# Altium integrated library NSC MiscPower.IntLib: 1417 symbols (part 7 of 39)
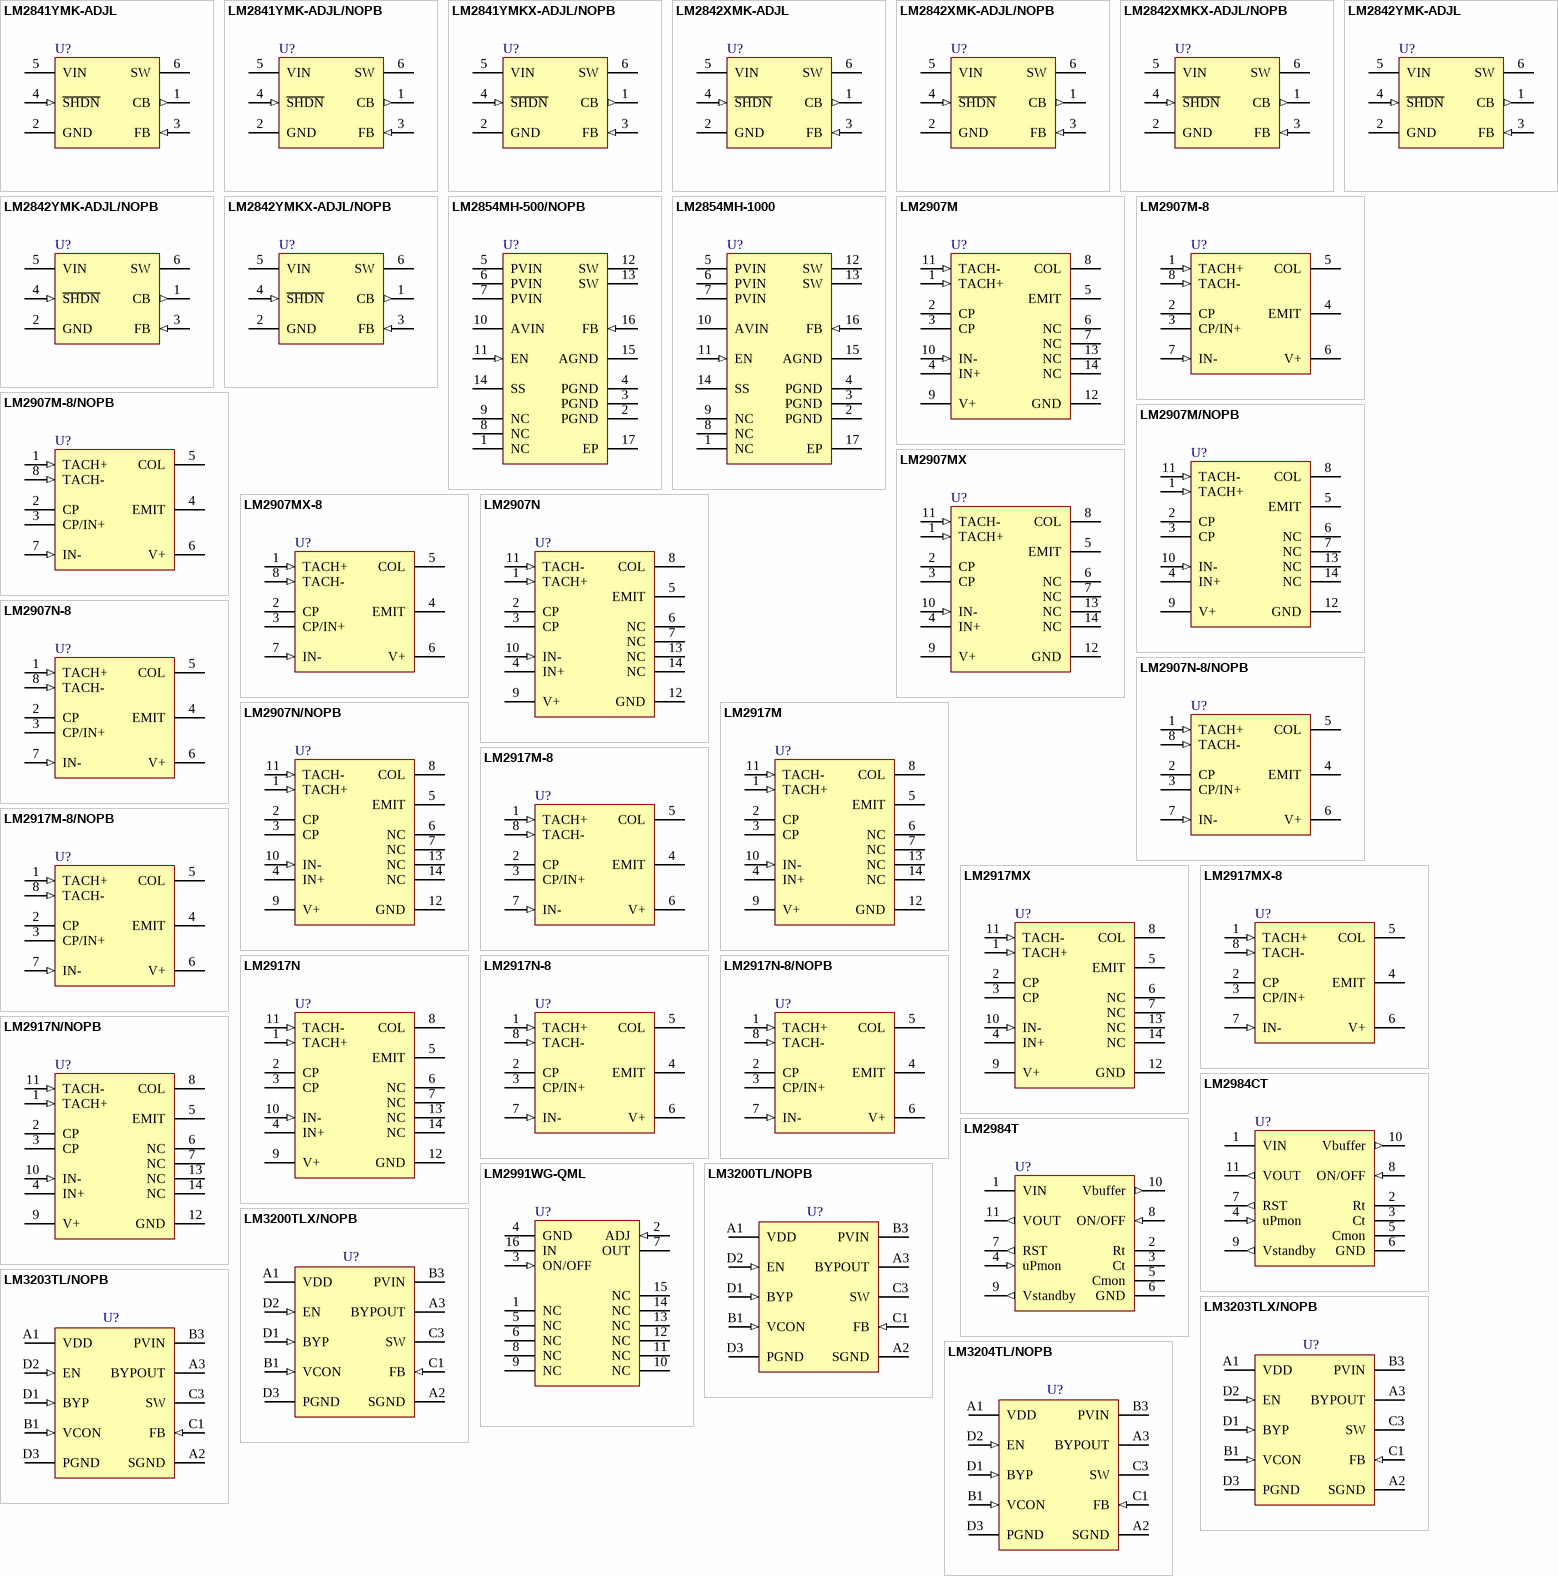
[diagram p57: symbols LM2841YMK-ADJL to LM3204TL/NOPB]

## LM2907N-8/NOPB
designator U?
Frequency to Voltage Converter, 8-pin MDIP, Pb-Free; PartNumber: LM2907N-8/NOPB; Manufacturer: National Semiconductor; PackageTopMarking: NSUZXYTTE#*LM*2907N-8; PowerWise: N; CompType: MiscPower; Published: 1-Mar-2010; DatasheetVersion: Dec-2008; PackageVersion: revG, May-2006; PackageReference: N08E; Publisher: Altium Limited; PackageDescription: MDIP, .365 x .250 x .130in, 8 Lead, .100in Pitch; Supplier 1: Digi-Key; Supplier Part Number 1: LM2907N-8-ND; Supplier 2: Farnell; Supplier Part Number 2: 1468987; RoHS: Y; PinCount: 8; Code_JEDEC: MS-001-BA; ComponentLink1Description: LM2907 Datasheet; ComponentLink1URL: http://www.national.com/ds/LM/LM2907.pdf; ComponentLink2Description: LM2907 Web Page; ComponentLink2URL: http://www.national.com/pf/LM/LM2907.html; ComponentLink3Description: N08E Package Page; ComponentLink3URL: http://www.national.com/packaging/folders/n08e.html
footprint N08E (DIP, 8-Leads, Row Spacing 7.62mm, Pitch 2.54mm, Body 9.91x6.35mm)
pins: 1 TACH+ (in), 2 CP, 3 CP/IN+, 4 EMIT, 5 COL, 6 V+ (power), 7 IN- (in), 8 TACH- (in)

## LM2907N/NOPB
designator U?
Frequency to Voltage Converter, 14-pin MDIP, Pb-Free; PartNumber: LM2907N/NOPB; Manufacturer: National Semiconductor; PackageTopMarking: NSUZXYYTTE#*LM2907N; PowerWise: N; CompType: MiscPower; Published: 1-Mar-2010; DatasheetVersion: Dec-2008; PackageVersion: revG, May-2006; PackageReference: N14A; Publisher: Altium Limited; PackageDescription: MDIP, .750 x .250 x.130in, 14 Lead, .100in Pitch; Supplier 1: Digi-Key; Supplier Part Number 1: LM2907N-ND; Supplier 2: Farnell; Supplier Part Number 2: 1564686; RoHS: Y; PinCount: 14; Code_JEDEC: MS-001-AA; ComponentLink1Description: LM2907 Datasheet; ComponentLink1URL: http://www.national.com/ds/LM/LM2907.pdf; ComponentLink2Description: LM2907 Web Page; ComponentLink2URL: http://www.national.com/pf/LM/LM2907.html; ComponentLink3Description: N14A Package Page; ComponentLink3URL: http://www.national.com/packaging/folders/n14a.html
footprint N14A (DIP, 14-Leads, Row Spacing 7.62mm, Pitch 2.54mm, Body 19.56x6.35mm)
pins: 1 TACH+ (in), 2 CP, 3 CP, 4 IN+, 5 EMIT, 6 NC, 7 NC, 8 COL, 9 V+ (power), 10 IN- (in), 11 TACH- (in), 12 GND (power), 13 NC, 14 NC

## LM2917M
designator U?
Frequency to Voltage Converter, 14-pin Narrow SOIC; PartNumber: LM2917M; Manufacturer: National Semiconductor; PackageTopMarking: NSUZXYTTE#*LM2917M; PowerWise: N; CompType: MiscPower; Published: 4-Dec-2008; DatasheetVersion: Dec-2008; PackageVersion: revJ, Jan-1996; PackageReference: M14A; Publisher: Altium Limited; PackageDescription: Molded Package S.O., .150in Wide, 14 Lead; Supplier 1: Farnell; Supplier Part Number 1: 4466690; RoHS: N; PinCount: 14; Code_JEDEC: MS-012AB; Code_IPC: SOIC127P600-14; ComponentLink1Description: LM2917 Datasheet; ComponentLink1URL: http://www.national.com/ds/LM/LM2917.pdf; ComponentLink2Description: LM2917 Web Page; ComponentLink2URL: http://www.national.com/pf/LM/LM2917.html; ComponentLink3Description: M14A Package Page; ComponentLink3URL: http://www.national.com/packaging/folders/m14a.html
footprint M14A_N (SOIC, 14-Leads, Body 8.6x3.9mm, Pitch 1.27mm, IPC Medium Density)
footprint M14A_L (SOIC, 14-Leads, Body 8.6x3.9mm, Pitch 1.27mm, IPC High Density)
footprint M14A_M (SOIC, 14-Leads, Body 8.6x3.9mm, Pitch 1.27mm, IPC Low Density)
pins: 1 TACH+ (in), 2 CP, 3 CP, 4 IN+, 5 EMIT, 6 NC, 7 NC, 8 COL, 9 V+ (power), 10 IN- (in), 11 TACH- (in), 12 GND (power), 13 NC, 14 NC

## LM2917M-8
designator U?
Frequency to Voltage Converter, 8-pin Narrow SOIC; PartNumber: LM2917M-8; Manufacturer: National Semiconductor; PackageTopMarking: NSZXTT*LM29*17M-8; PowerWise: N; CompType: MiscPower; Published: 4-Dec-2008; DatasheetVersion: Dec-2008; PackageVersion: revM, May-2009; PackageReference: M08A; Publisher: Altium Limited; PackageDescription: SOIC Narrow, 4.9 x 3.9 x 1.45mm, 8 Lead, 1.27mm Pitch; Supplier 1: Digi-Key; Supplier Part Number 1: LM2917M-8-ND; Supplier 2: Farnell; Supplier Part Number 2: 7592530; RoHS: N; PinCount: 8; Code_JEDEC: MS-012-AA; Code_IPC: SOIC127P600-8; ComponentLink1Description: LM2917 Datasheet; ComponentLink1URL: http://www.national.com/ds/LM/LM2917.pdf; ComponentLink2Description: LM2917 Web Page; ComponentLink2URL: http://www.national.com/pf/LM/LM2917.html; ComponentLink3Description: M08A Package Page; ComponentLink3URL: http://www.national.com/packaging/folders/m08a.html
footprint M08A_N (SOIC, 8-Leads, Body 4.9x3.9mm, Pitch 1.27mm, IPC Medium Density)
footprint M08A_L (SOIC, 8-Leads, Body 4.9x3.9mm, Pitch 1.27mm, IPC High Density)
footprint M08A_M (SOIC, 8-Leads, Body 4.9x3.9mm, Pitch 1.27mm, IPC Low Density)
pins: 1 TACH+ (in), 2 CP, 3 CP/IN+, 4 EMIT, 5 COL, 6 V+ (power), 7 IN- (in), 8 TACH- (in)

## LM2917M-8/NOPB
designator U?
Frequency to Voltage Converter, 8-pin Narrow SOIC, Pb-Free; PartNumber: LM2917M-8/NOPB; Manufacturer: National Semiconductor; PackageTopMarking: NSZXTT*LM29*17M-8; PowerWise: N; CompType: MiscPower; Published: 1-Mar-2010; DatasheetVersion: Dec-2008; PackageVersion: revM, May-2009; PackageReference: M08A; Publisher: Altium Limited; PackageDescription: SOIC Narrow, 4.9 x 3.9 x 1.45mm, 8 Lead, 1.27mm Pitch; Supplier 1: Digi-Key; Supplier Part Number 1: LM2917M-8/NOPB-ND; Supplier 2: Farnell; Supplier Part Number 2: 1468988; RoHS: Y; PinCount: 8; Code_JEDEC: MS-012-AA; Code_IPC: SOIC127P600-8; ComponentLink1Description: LM2917 Datasheet; ComponentLink1URL: http://www.national.com/ds/LM/LM2917.pdf; ComponentLink2Description: LM2917 Web Page; ComponentLink2URL: http://www.national.com/pf/LM/LM2917.html; ComponentLink3Description: M08A Package Page; ComponentLink3URL: http://www.national.com/packaging/folders/m08a.html
footprint M08A_N (SOIC, 8-Leads, Body 4.9x3.9mm, Pitch 1.27mm, IPC Medium Density)
footprint M08A_L (SOIC, 8-Leads, Body 4.9x3.9mm, Pitch 1.27mm, IPC High Density)
footprint M08A_M (SOIC, 8-Leads, Body 4.9x3.9mm, Pitch 1.27mm, IPC Low Density)
pins: 1 TACH+ (in), 2 CP, 3 CP/IN+, 4 EMIT, 5 COL, 6 V+ (power), 7 IN- (in), 8 TACH- (in)

## LM2917MX
designator U?
Frequency to Voltage Converter, 14-pin Narrow SOIC; PartNumber: LM2917MX; Manufacturer: National Semiconductor; PackageTopMarking: NSUZXYTTE#*LM2917M; PowerWise: N; CompType: MiscPower; Published: 1-Mar-2010; DatasheetVersion: Dec-2008; PackageVersion: revJ, Jan-1996; PackageReference: M14A; Publisher: Altium Limited; PackageDescription: Molded Package S.O., .150in Wide, 14 Lead; RoHS: N; PinCount: 14; Code_JEDEC: MS-012AB; Code_IPC: SOIC127P600-14; ComponentLink1Description: LM2917 Datasheet; ComponentLink1URL: http://www.national.com/ds/LM/LM2917.pdf; ComponentLink2Description: LM2917 Web Page; ComponentLink2URL: http://www.national.com/pf/LM/LM2917.html; ComponentLink3Description: M14A Package Page; ComponentLink3URL: http://www.national.com/packaging/folders/m14a.html
footprint M14A_N (SOIC, 14-Leads, Body 8.6x3.9mm, Pitch 1.27mm, IPC Medium Density)
footprint M14A_L (SOIC, 14-Leads, Body 8.6x3.9mm, Pitch 1.27mm, IPC High Density)
footprint M14A_M (SOIC, 14-Leads, Body 8.6x3.9mm, Pitch 1.27mm, IPC Low Density)
pins: 1 TACH+ (in), 2 CP, 3 CP, 4 IN+, 5 EMIT, 6 NC, 7 NC, 8 COL, 9 V+ (power), 10 IN- (in), 11 TACH- (in), 12 GND (power), 13 NC, 14 NC

## LM2917MX-8
designator U?
Frequency to Voltage Converter, 8-pin Narrow SOIC; PartNumber: LM2917MX-8; Manufacturer: National Semiconductor; PackageTopMarking: NSZXTT*LM29*17M-8; PowerWise: N; CompType: MiscPower; Published: 1-Mar-2010; DatasheetVersion: Dec-2008; PackageVersion: revM, May-2009; PackageReference: M08A; Publisher: Altium Limited; PackageDescription: SOIC Narrow, 4.9 x 3.9 x 1.45mm, 8 Lead, 1.27mm Pitch; Supplier 1: Digi-Key; Supplier Part Number 1: LM2917MX-8TR-ND; Supplier 2: Digi-Key; Supplier Part Number 2: LM2917MX-8CT-ND; Supplier 3: Digi-Key; Supplier Part Number 3: LM2917MX-8DKR-ND; RoHS: N; PinCount: 8; Code_JEDEC: MS-012-AA; Code_IPC: SOIC127P600-8; ComponentLink1Description: LM2917 Datasheet; ComponentLink1URL: http://www.national.com/ds/LM/LM2917.pdf; ComponentLink2Description: LM2917 Web Page; ComponentLink2URL: http://www.national.com/pf/LM/LM2917.html; ComponentLink3Description: M08A Package Page; ComponentLink3URL: http://www.national.com/packaging/folders/m08a.html
footprint M08A_N (SOIC, 8-Leads, Body 4.9x3.9mm, Pitch 1.27mm, IPC Medium Density)
footprint M08A_L (SOIC, 8-Leads, Body 4.9x3.9mm, Pitch 1.27mm, IPC High Density)
footprint M08A_M (SOIC, 8-Leads, Body 4.9x3.9mm, Pitch 1.27mm, IPC Low Density)
pins: 1 TACH+ (in), 2 CP, 3 CP/IN+, 4 EMIT, 5 COL, 6 V+ (power), 7 IN- (in), 8 TACH- (in)

## LM2917N
designator U?
Frequency to Voltage Converter, 14-pin MDIP; PartNumber: LM2917N; Manufacturer: National Semiconductor; PackageTopMarking: NSUZXYYTTE#*LM2917N; PowerWise: N; CompType: MiscPower; Published: 4-Dec-2008; DatasheetVersion: Dec-2008; PackageVersion: revG, May-2006; PackageReference: N14A; Publisher: Altium Limited; PackageDescription: MDIP, .750 x .250 x.130in, 14 Lead, .100in Pitch; Supplier 1: Farnell; Supplier Part Number 1: 9487786; RoHS: N; PinCount: 14; Code_JEDEC: MS-001-AA; ComponentLink1Description: LM2917 Datasheet; ComponentLink1URL: http://www.national.com/ds/LM/LM2917.pdf; ComponentLink2Description: LM2917 Web Page; ComponentLink2URL: http://www.national.com/pf/LM/LM2917.html; ComponentLink3Description: N14A Package Page; ComponentLink3URL: http://www.national.com/packaging/folders/n14a.html
footprint N14A (DIP, 14-Leads, Row Spacing 7.62mm, Pitch 2.54mm, Body 19.56x6.35mm)
pins: 1 TACH+ (in), 2 CP, 3 CP, 4 IN+, 5 EMIT, 6 NC, 7 NC, 8 COL, 9 V+ (power), 10 IN- (in), 11 TACH- (in), 12 GND (power), 13 NC, 14 NC

## LM2917N-8
designator U?
Frequency to Voltage Converter, 8-pin MDIP; PartNumber: LM2917N-8; Manufacturer: National Semiconductor; PackageTopMarking: NSUZXYTTE#*LM*2917N-8; PowerWise: N; CompType: MiscPower; Published: 4-Dec-2008; DatasheetVersion: Dec-2008; PackageVersion: revG, May-2006; PackageReference: N08E; Publisher: Altium Limited; PackageDescription: MDIP, .365 x .250 x .130in, 8 Lead, .100in Pitch; Supplier 1: Farnell; Supplier Part Number 1: 9487794; RoHS: N; PinCount: 8; Code_JEDEC: MS-001-BA; ComponentLink1Description: LM2917 Datasheet; ComponentLink1URL: http://www.national.com/ds/LM/LM2917.pdf; ComponentLink2Description: LM2917 Web Page; ComponentLink2URL: http://www.national.com/pf/LM/LM2917.html; ComponentLink3Description: N08E Package Page; ComponentLink3URL: http://www.national.com/packaging/folders/n08e.html
footprint N08E (DIP, 8-Leads, Row Spacing 7.62mm, Pitch 2.54mm, Body 9.91x6.35mm)
pins: 1 TACH+ (in), 2 CP, 3 CP/IN+, 4 EMIT, 5 COL, 6 V+ (power), 7 IN- (in), 8 TACH- (in)

## LM2917N-8/NOPB
designator U?
Frequency to Voltage Converter, 8-pin MDIP, Pb-Free; PartNumber: LM2917N-8/NOPB; Manufacturer: National Semiconductor; PackageTopMarking: NSUZXYTTE#*LM*2917N-8; PowerWise: N; CompType: MiscPower; Published: 1-Mar-2010; DatasheetVersion: Dec-2008; PackageVersion: revG, May-2006; PackageReference: N08E; Publisher: Altium Limited; PackageDescription: MDIP, .365 x .250 x .130in, 8 Lead, .100in Pitch; Supplier 1: Digi-Key; Supplier Part Number 1: LM2917N-8-ND; Supplier 2: Farnell; Supplier Part Number 2: 1468989; RoHS: Y; PinCount: 8; Code_JEDEC: MS-001-BA; ComponentLink1Description: LM2917 Datasheet; ComponentLink1URL: http://www.national.com/ds/LM/LM2917.pdf; ComponentLink2Description: LM2917 Web Page; ComponentLink2URL: http://www.national.com/pf/LM/LM2917.html; ComponentLink3Description: N08E Package Page; ComponentLink3URL: http://www.national.com/packaging/folders/n08e.html
footprint N08E (DIP, 8-Leads, Row Spacing 7.62mm, Pitch 2.54mm, Body 9.91x6.35mm)
pins: 1 TACH+ (in), 2 CP, 3 CP/IN+, 4 EMIT, 5 COL, 6 V+ (power), 7 IN- (in), 8 TACH- (in)

## LM2917N/NOPB
designator U?
Frequency to Voltage Converter, 14-pin MDIP, Pb-Free; PartNumber: LM2917N/NOPB; Manufacturer: National Semiconductor; PackageTopMarking: NSUZXYYTTE#*LM2917N; PowerWise: N; CompType: MiscPower; Published: 1-Mar-2010; DatasheetVersion: Dec-2008; PackageVersion: revG, May-2006; PackageReference: N14A; Publisher: Altium Limited; PackageDescription: MDIP, .750 x .250 x.130in, 14 Lead, .100in Pitch; Supplier 1: Digi-Key; Supplier Part Number 1: LM2917N-ND; Supplier 2: Farnell; Supplier Part Number 2: 1184975; RoHS: Y; PinCount: 14; Code_JEDEC: MS-001-AA; ComponentLink1Description: LM2917 Datasheet; ComponentLink1URL: http://www.national.com/ds/LM/LM2917.pdf; ComponentLink2Description: LM2917 Web Page; ComponentLink2URL: http://www.national.com/pf/LM/LM2917.html; ComponentLink3Description: N14A Package Page; ComponentLink3URL: http://www.national.com/packaging/folders/n14a.html
footprint N14A (DIP, 14-Leads, Row Spacing 7.62mm, Pitch 2.54mm, Body 19.56x6.35mm)
pins: 1 TACH+ (in), 2 CP, 3 CP, 4 IN+, 5 EMIT, 6 NC, 7 NC, 8 COL, 9 V+ (power), 10 IN- (in), 11 TACH- (in), 12 GND (power), 13 NC, 14 NC

## LM2984CT
designator U?
Microprocessor Power Supply System, 11-pin TO-220; PartNumber: LM2984CT; Manufacturer: National Semiconductor; PackageTopMarking: NSUZXYTTE#*LM2984CT*P+; PowerWise: N; CompType: MiscPower; Published: 4-Dec-2008; DatasheetVersion: May-1989; PackageVersion: revA, Mar-1987; PackageReference: TA11B; Publisher: Altium Limited; PackageDescription: TO-220, Molded, .788 x .421in Body, 11 Lead, .067in Pitch; RoHS: N; PinCount: 11; ComponentLink1Description: LM2984C Datasheet; ComponentLink1URL: http://www.national.com/ds/LM/LM2984C.pdf; ComponentLink2Description: LM2984C Web Page; ComponentLink2URL: http://www.national.com/pf/LM/LM2984C.html; ComponentLink3Description: TA11B Package Page; ComponentLink3URL: http://www.national.com/packaging/folders/ta11b.html
footprint TA11B (TO, Thru-Hole, Vertical, Heatsink Mounted; 11 Bent Staggered Leads; Body 20x10.7x4.5mm, Pitch 1.7 mm)
pins: 1 VIN (power), 2 Rt, 3 Ct, 4 uPmon (in), 5 Cmon, 6 GND (power), 7 RST (out), 8 ON/OFF (in), 9 Vstandby (out), 10 Vbuffer (out), 11 VOUT (out)

## LM2984T
designator U?
Microprocessor Power Supply System, 11-pin TO-220; PartNumber: LM2984T; Manufacturer: National Semiconductor; PackageTopMarking: NSUZXYTTE#*LM2984T; PowerWise: N; CompType: MiscPower; Published: 4-Dec-2008; DatasheetVersion: Dec-2008; PackageVersion: revA, Mar-1987; PackageReference: TA11B; Publisher: Altium Limited; PackageDescription: TO-220, Molded, .788 x .421in Body, 11 Lead, .067in Pitch; RoHS: N; PinCount: 11; ComponentLink1Description: LM2984 Datasheet; ComponentLink1URL: http://www.national.com/ds/LM/LM2984.pdf; ComponentLink2Description: LM2984 Web Page; ComponentLink2URL: http://www.national.com/pf/LM/LM2984.html; ComponentLink3Description: TA11B Package Page; ComponentLink3URL: http://www.national.com/packaging/folders/ta11b.html
footprint TA11B (TO, Thru-Hole, Vertical, Heatsink Mounted; 11 Bent Staggered Leads; Body 20x10.7x4.5mm, Pitch 1.7 mm)
pins: 1 VIN (power), 2 Rt, 3 Ct, 4 uPmon (in), 5 Cmon, 6 GND (power), 7 RST (out), 8 ON/OFF (in), 9 Vstandby (out), 10 Vbuffer (out), 11 VOUT (out)

## LM2991WG-QML
designator U?
Negative Low Dropout Adjustable Regulator, 16-pin CerPACK; PartNumber: LM2991WG-QML; Manufacturer: National Semiconductor; PackageTopMarking: NSZSSXXYYA*LM2991WG-*QML Q 5962-*9650501QXA; PowerWise: N; CompType: MiscPower; High-Reliability: Y; Published: 4-Dec-2008; DatasheetVersion: Sep-2000; PackageVersion: revE, Jul-2007; PackageReference: WG16A; Publisher: Altium Limited; PackageDescription: Cerpack, .390 x .250 x .070in, 16 Lead, .050in Pitch, Gull Wing; RoHS: N; PinCount: 16; ComponentLink1Description: LM2991 Datasheet; ComponentLink1URL: http://www.national.com/ds/LM/LM2991QML.pdf; ComponentLink2Description: LM2991 Web Page; ComponentLink2URL: http://www.national.com/pf/LM/LM2991.html; ComponentLink3Description: WG16A Package Page; ComponentLink3URL: http://www.national.com/packaging/folders/wg16a.html
footprint WG16A_N (CERPACK, 16-Leads, Body 9.9x6.5mm, Pitch 1.27mm, IPC Medium Density)
footprint WG16A_L (CERPACK, 16-Leads, Body 9.9x6.5mm, Pitch 1.27mm, IPC High Density)
footprint WG16A_M (CERPACK, 16-Leads, Body 9.9x6.5mm, Pitch 1.27mm, IPC Low Density)
pins: 1 NC, 2 ADJ (in), 3 ON/OFF (in), 4 GND (power), 5 NC, 6 NC, 7 OUT (power), 8 NC, 9 NC, 10 NC, 11 NC, 12 NC, 13 NC, 14 NC, 15 NC, 16 IN (power)

## LM3200TL/NOPB
designator U?
Miniature, Adjustable, Step-Down DC-DC Converter with Bypass Mode for RF Power Amplifiers, 10-pin Micro SMD, Pb-Free; PartNumber: LM3200TL/NOPB; Manufacturer: National Semiconductor; PackageTopMarking: XYTT*I SCUB; PowerWise: Y; CompType: MiscPower; Published: 1-Mar-2010; DatasheetVersion: Nov-2005; PackageVersion: revD, Mar-2004; PackageReference: TLP10NHA; Publisher: Altium Limited; PackageDescription: Thin Micro SMD, 10 Bump (Large), Periperal, 0.5mm Pitch; Supplier 1: Digi-Key; Supplier Part Number 1: LM3200TLTR-ND; Supplier 2: Digi-Key; Supplier Part Number 2: LM3200TLCT-ND; RoHS: Y; PinCount: 10; Code_JEDEC: MO-211-BD; ComponentLink1Description: LM3200 Datasheet; ComponentLink1URL: http://www.national.com/ds/LM/LM3200.pdf; ComponentLink2Description: LM3200 Web Page; ComponentLink2URL: http://www.national.com/pf/LM/LM3200.html; ComponentLink3Description: TLP10NHA Package Page; ComponentLink3URL: http://www.national.com/packaging/folders/tlp10nha.html
footprint TLP10NHA (Micro SMD, 10-Leads, Body 2.17x1.82mm, Pitch 0.5mm, NSC Recommended)
pins: A1 VDD (power), A2 SGND (power), A3 BYPOUT (oe), B1 VCON (in), B3 PVIN (power), C1 FB (in), C3 SW, D1 BYP (in), D2 EN (in), D3 PGND (power)

## LM3200TLX/NOPB
designator U?
Miniature, Adjustable, Step-Down DC-DC Converter with Bypass Mode for RF Power Amplifiers, 10-pin Micro SMD, Pb-Free; PartNumber: LM3200TLX/NOPB; Manufacturer: National Semiconductor; PackageTopMarking: XYTT*I SCUB; PowerWise: Y; CompType: MiscPower; Published: 1-Mar-2010; DatasheetVersion: Nov-2005; PackageVersion: revD, Mar-2004; PackageReference: TLP10NHA; Publisher: Altium Limited; PackageDescription: Thin Micro SMD, 10 Bump (Large), Periperal, 0.5mm Pitch; Supplier 1: Digi-Key; Supplier Part Number 1: LM3200TLX-ND; RoHS: Y; PinCount: 10; Code_JEDEC: MO-211-BD; ComponentLink1Description: LM3200 Datasheet; ComponentLink1URL: http://www.national.com/ds/LM/LM3200.pdf; ComponentLink2Description: LM3200 Web Page; ComponentLink2URL: http://www.national.com/pf/LM/LM3200.html; ComponentLink3Description: TLP10NHA Package Page; ComponentLink3URL: http://www.national.com/packaging/folders/tlp10nha.html
footprint TLP10NHA (Micro SMD, 10-Leads, Body 2.17x1.82mm, Pitch 0.5mm, NSC Recommended)
pins: A1 VDD (power), A2 SGND (power), A3 BYPOUT (oe), B1 VCON (in), B3 PVIN (power), C1 FB (in), C3 SW, D1 BYP (in), D2 EN (in), D3 PGND (power)

## LM3203TL/NOPB
designator U?
Miniature, Adjustable, Step-Down DC-DC Converter with Bypass Mode for RF Power Amplifiers, 10-pin Micro SMD, Pb-Free; PartNumber: LM3203TL/NOPB; Manufacturer: National Semiconductor; PackageTopMarking: XYTT*I SFYB; PowerWise: Y; CompType: MiscPower; Published: 1-Mar-2010; DatasheetVersion: Jul-2005; PackageVersion: revD, Mar-2004; PackageReference: TLP10NHA; Publisher: Altium Limited; PackageDescription: Thin Micro SMD, 10 Bump (Large), Periperal, 0.5mm Pitch; Supplier 1: Digi-Key; Supplier Part Number 1: LM3203TLTR-ND; Supplier 2: Digi-Key; Supplier Part Number 2: LM3203TLCT-ND; RoHS: Y; PinCount: 10; Code_JEDEC: MO-211-BD; ComponentLink1Description: LM3203 Datasheet; ComponentLink1URL: http://www.national.com/ds/LM/LM3203.pdf; ComponentLink2Description: LM3203 Web Page; ComponentLink2URL: http://www.national.com/pf/LM/LM3203.html; ComponentLink3Description: TLP10NHA Package Page; ComponentLink3URL: http://www.national.com/packaging/folders/tlp10nha.html
footprint TLP10NHA (Micro SMD, 10-Leads, Body 2.17x1.82mm, Pitch 0.5mm, NSC Recommended)
pins: A1 VDD (power), A2 SGND (power), A3 BYPOUT (oe), B1 VCON (in), B3 PVIN (power), C1 FB (in), C3 SW, D1 BYP (in), D2 EN (in), D3 PGND (power)

## LM3203TLX/NOPB
designator U?
Miniature, Adjustable, Step-Down DC-DC Converter with Bypass Mode for RF Power Amplifiers, 10-pin Micro SMD, Pb-Free; PartNumber: LM3203TLX/NOPB; Manufacturer: National Semiconductor; PackageTopMarking: XYTT*I SFYB; PowerWise: Y; CompType: MiscPower; Published: 1-Mar-2010; DatasheetVersion: Jul-2005; PackageVersion: revD, Mar-2004; PackageReference: TLP10NHA; Publisher: Altium Limited; PackageDescription: Thin Micro SMD, 10 Bump (Large), Periperal, 0.5mm Pitch; Supplier 1: Digi-Key; Supplier Part Number 1: LM3203TLX-ND; RoHS: Y; PinCount: 10; Code_JEDEC: MO-211-BD; ComponentLink1Description: LM3203 Datasheet; ComponentLink1URL: http://www.national.com/ds/LM/LM3203.pdf; ComponentLink2Description: LM3203 Web Page; ComponentLink2URL: http://www.national.com/pf/LM/LM3203.html; ComponentLink3Description: TLP10NHA Package Page; ComponentLink3URL: http://www.national.com/packaging/folders/tlp10nha.html
footprint TLP10NHA (Micro SMD, 10-Leads, Body 2.17x1.82mm, Pitch 0.5mm, NSC Recommended)
pins: A1 VDD (power), A2 SGND (power), A3 BYPOUT (oe), B1 VCON (in), B3 PVIN (power), C1 FB (in), C3 SW, D1 BYP (in), D2 EN (in), D3 PGND (power)

## LM3204TL/NOPB
designator U?
Miniature, Adjustable, Step-Down DC-DC Converter with Bypass Mode for RF Power Amplifiers, 10-pin Micro SMD, Pb-Free; PartNumber: LM3204TL/NOPB; Manufacturer: National Semiconductor; PackageTopMarking: XYTT*I SJDB; PowerWise: Y; CompType: MiscPower; Published: 1-Mar-2010; DatasheetVersion: Nov-2005; PackageVersion: revD, Mar-2004; PackageReference: TLP10NHA; Publisher: Altium Limited; PackageDescription: Thin Micro SMD, 10 Bump (Large), Periperal, 0.5mm Pitch; Supplier 1: Digi-Key; Supplier Part Number 1: LM3204TLTR-ND; Supplier 2: Digi-Key; Supplier Part Number 2: LM3204TLCT-ND; RoHS: Y; PinCount: 10; Code_JEDEC: MO-211-BD; ComponentLink1Description: LM3204 Datasheet; ComponentLink1URL: http://www.national.com/ds/LM/LM3204.pdf; ComponentLink2Description: LM3204 Web Page; ComponentLink2URL: http://www.national.com/pf/LM/LM3204.html; ComponentLink3Description: TLP10NHA Package Page; ComponentLink3URL: http://www.national.com/packaging/folders/tlp10nha.html
footprint TLP10NHA (Micro SMD, 10-Leads, Body 2.17x1.82mm, Pitch 0.5mm, NSC Recommended)
pins: A1 VDD (power), A2 SGND (power), A3 BYPOUT (oe), B1 VCON (in), B3 PVIN (power), C1 FB (in), C3 SW, D1 BYP (in), D2 EN (in), D3 PGND (power)

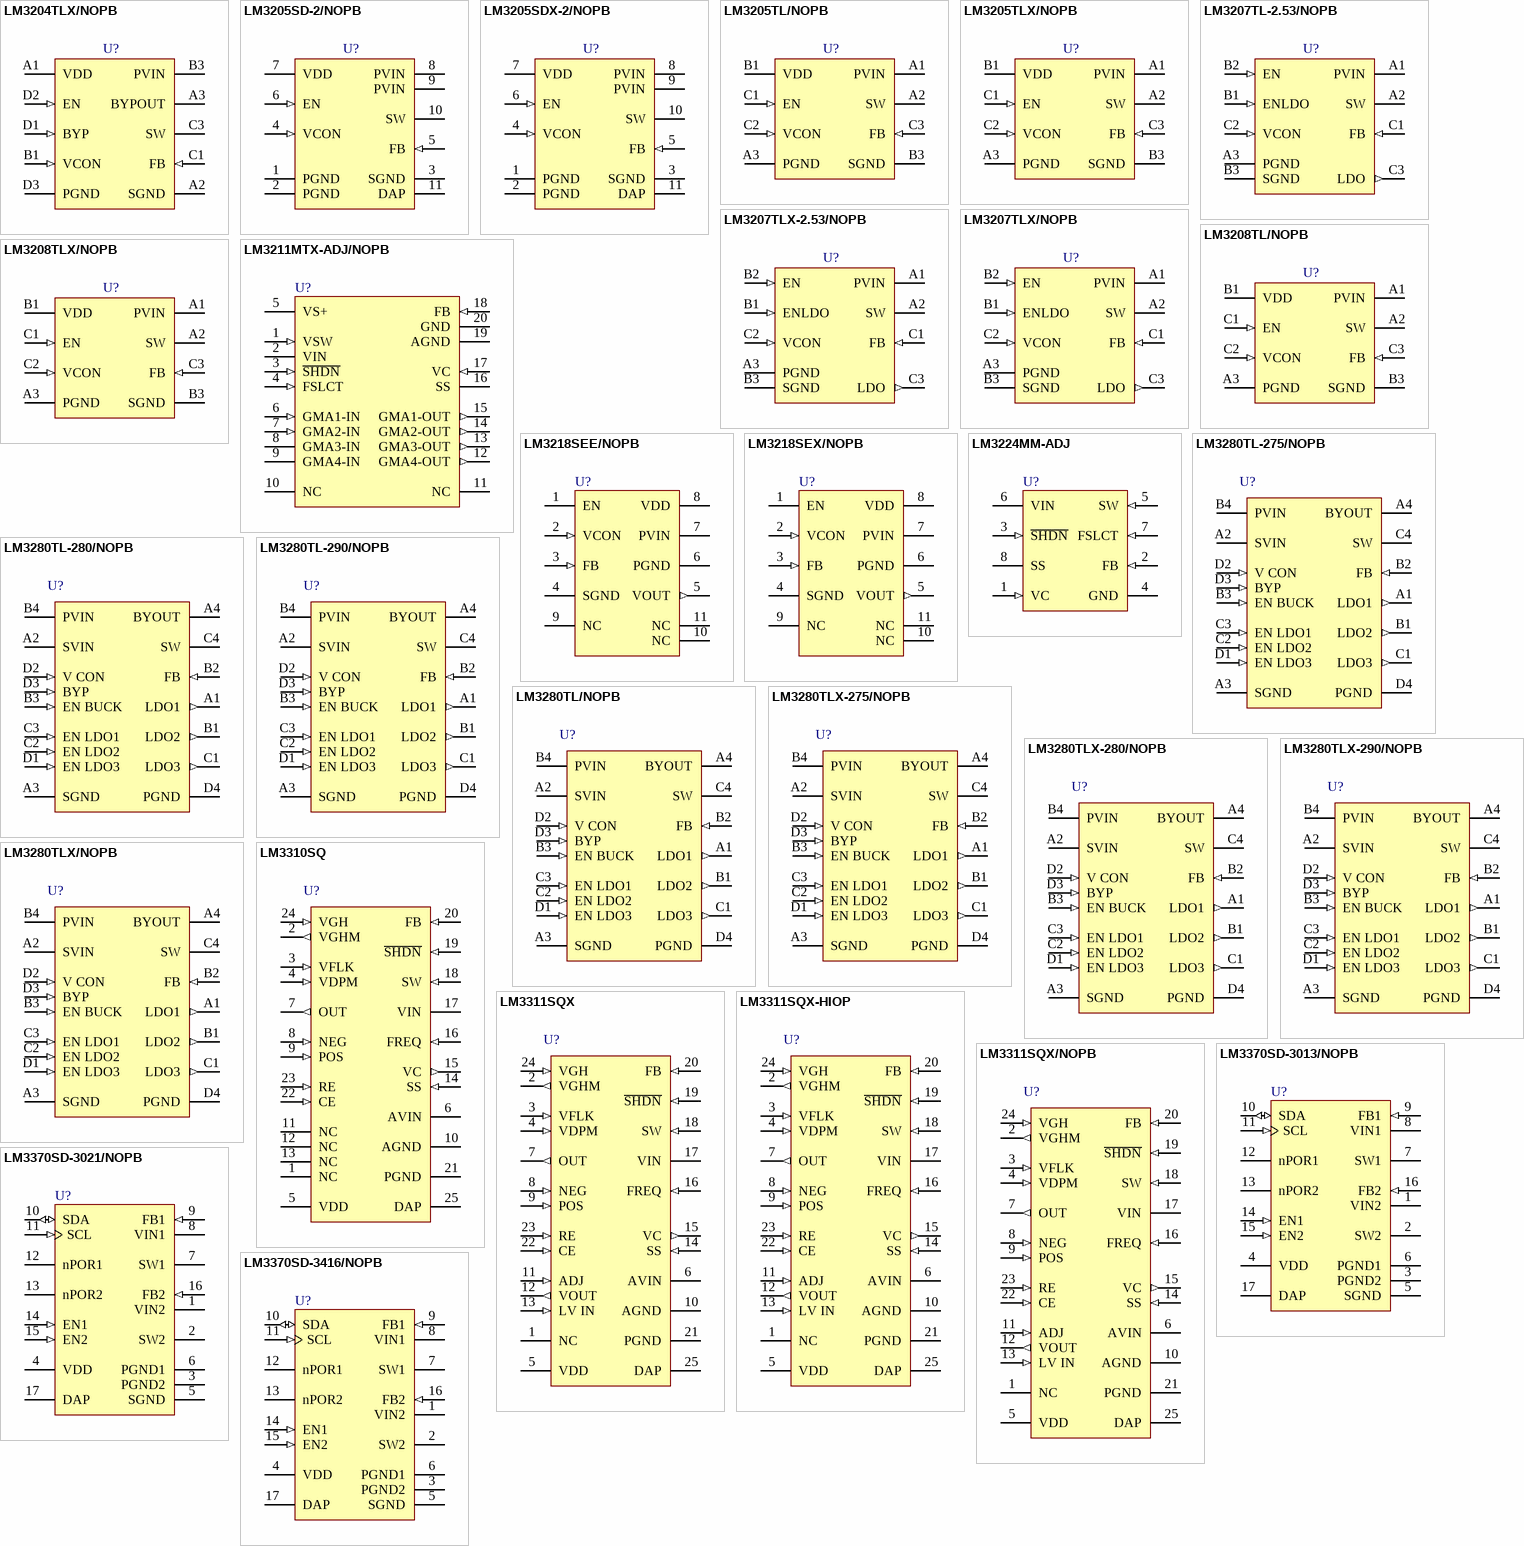
[diagram p8: symbols LM3204TLX/NOPB to LM3370SD-3416/NOPB]

## LM3204TLX/NOPB
designator U?
Miniature, Adjustable, Step-Down DC-DC Converter with Bypass Mode for RF Power Amplifiers, 10-pin Micro SMD, Pb-Free; PartNumber: LM3204TLX/NOPB; Manufacturer: National Semiconductor; PackageTopMarking: XYTT*I SJDB; PowerWise: Y; CompType: MiscPower; Published: 1-Mar-2010; DatasheetVersion: Nov-2005; PackageVersion: revD, Mar-2004; PackageReference: TLP10NHA; Publisher: Altium Limited; PackageDescription: Thin Micro SMD, 10 Bump (Large), Periperal, 0.5mm Pitch; Supplier 1: Digi-Key; Supplier Part Number 1: LM3204TLX-ND; RoHS: Y; PinCount: 10; Code_JEDEC: MO-211-BD; ComponentLink1Description: LM3204 Datasheet; ComponentLink1URL: http://www.national.com/ds/LM/LM3204.pdf; ComponentLink2Description: LM3204 Web Page; ComponentLink2URL: http://www.national.com/pf/LM/LM3204.html; ComponentLink3Description: TLP10NHA Package Page; ComponentLink3URL: http://www.national.com/packaging/folders/tlp10nha.html
footprint TLP10NHA (Micro SMD, 10-Leads, Body 2.17x1.82mm, Pitch 0.5mm, NSC Recommended)
pins: A1 VDD (power), A2 SGND (power), A3 BYPOUT (oe), B1 VCON (in), B3 PVIN (power), C1 FB (in), C3 SW, D1 BYP (in), D2 EN (in), D3 PGND (power)

## LM3205SD-2/NOPB
designator U?
650mA Miniature, Adjustable, Step-Down DC-DC Converter for RF Power Amplifiers, 10-pin LLP, Pb-Free; PartNumber: LM3205SD-2/NOPB; Manufacturer: National Semiconductor; PackageTopMarking: ZXYTT*S006B; PowerWise: Y; CompType: MiscPower; Published: 1-Mar-2010; DatasheetVersion: May-2009; PackageVersion: revA, Oct-2003; PackageReference: SDA10A; Publisher: Altium Limited; PackageDescription: LLP, Plastic, Dual, 3 x 3 x 0.8mm Body, 10 Lead, 0.5mm Pitch, No Pullback; Supplier 1: Digi-Key; Supplier Part Number 1: LM3205SD-2/NOPBTR-ND; Supplier 2: Digi-Key; Supplier Part Number 2: LM3205SD-2/NOPBCT-ND; Supplier 3: Digi-Key; Supplier Part Number 3: LM3205SD-2/NOPBDKR-ND; RoHS: Y; PinCount: 10; ComponentLink1Description: LM3205 Datasheet; ComponentLink1URL: http://www.national.com/ds/LM/LM3205.pdf; ComponentLink2Description: LM3205 Web Page; ComponentLink2URL: http://www.national.com/pf/LM/LM3205.html; ComponentLink3Description: SDA10A Package Page; ComponentLink3URL: http://www.national.com/packaging/folders/sda10a.html
footprint SDA10A (SON, 10-Leads, Body 3x3 mm, Pitch 0.5mm, NSC Recommended)
pins: 1 PGND (power), 2 PGND (power), 3 SGND (power), 4 VCON (in), 5 FB (in), 6 EN (in), 7 VDD (power), 8 PVIN (power), 9 PVIN (power), 10 SW, 11 DAP (power)

## LM3205SDX-2/NOPB
designator U?
650mA Miniature, Adjustable, Step-Down DC-DC Converter for RF Power Amplifiers, 10-pin LLP, Pb-Free; PartNumber: LM3205SDX-2/NOPB; Manufacturer: National Semiconductor; PackageTopMarking: ZXYTT*S006B; PowerWise: Y; CompType: MiscPower; Published: 1-Mar-2010; DatasheetVersion: Jan-2006; PackageVersion: revA, Oct-2003; PackageReference: SDA10A; Publisher: Altium Limited; PackageDescription: LLP, Plastic, Dual, 3 x 3 x 0.8mm Body, 10 Lead, 0.5mm Pitch, No Pullback; Supplier 1: Digi-Key; Supplier Part Number 1: LM3205SDX-2-ND; RoHS: Y; PinCount: 10; ComponentLink1Description: LM3205 Datasheet; ComponentLink1URL: http://www.national.com/ds/LM/LM3205.pdf; ComponentLink2Description: LM3205 Web Page; ComponentLink2URL: http://www.national.com/pf/LM/LM3205.html; ComponentLink3Description: SDA10A Package Page; ComponentLink3URL: http://www.national.com/packaging/folders/sda10a.html
footprint SDA10A (SON, 10-Leads, Body 3x3 mm, Pitch 0.5mm, NSC Recommended)
pins: 1 PGND (power), 2 PGND (power), 3 SGND (power), 4 VCON (in), 5 FB (in), 6 EN (in), 7 VDD (power), 8 PVIN (power), 9 PVIN (power), 10 SW, 11 DAP (power)

## LM3205TL/NOPB
designator U?
650mA Miniature, Adjustable, Step-Down DC-DC Converter for RF Power Amplifiers, 8-pin Micro SMD, Pb-Free; PartNumber: LM3205TL/NOPB; Manufacturer: National Semiconductor; PackageTopMarking: XVS*I 32; PowerWise: Y; CompType: MiscPower; Published: 1-Mar-2010; DatasheetVersion: May-2009; PackageVersion: revC, Jan-2004; PackageReference: TLA08GNA; Publisher: Altium Limited; PackageDescription: Thin Micro SMD, 8 Bump (Large), 0.5mm Pitch; Supplier 1: Digi-Key; Supplier Part Number 1: LM3205TLTR-ND; Supplier 2: Digi-Key; Supplier Part Number 2: LM3205TLCT-ND; Supplier 3: Digi-Key; Supplier Part Number 3: LM3205TLDKR-ND; RoHS: Y; PinCount: 8; Code_JEDEC: MO-211-DD; ComponentLink1Description: LM3205 Datasheet; ComponentLink1URL: http://www.national.com/ds/LM/LM3205.pdf; ComponentLink2Description: LM3205 Web Page; ComponentLink2URL: http://www.national.com/pf/LM/LM3205.html; ComponentLink3Description: TLA08GNA Package Page; ComponentLink3URL: http://www.national.com/packaging/folders/tla08gna.html
footprint TLA08GNA (Micro SMD, 8-Leads, Body 1.82x1.67mm, Pitch 0.5mm, NSC Recommended)
pins: A1 PVIN (power), A2 SW, A3 PGND (power), B1 VDD (power), B3 SGND (power), C1 EN (in), C2 VCON (in), C3 FB (in)

## LM3205TLX/NOPB
designator U?
650mA Miniature, Adjustable, Step-Down DC-DC Converter for RF Power Amplifiers, 8-pin Micro SMD, Pb-Free; PartNumber: LM3205TLX/NOPB; Manufacturer: National Semiconductor; PackageTopMarking: XVS*I 32; PowerWise: Y; CompType: MiscPower; Published: 1-Mar-2010; DatasheetVersion: Jan-2006; PackageVersion: revC, Jan-2004; PackageReference: TLA08GNA; Publisher: Altium Limited; PackageDescription: Thin Micro SMD, 8 Bump (Large), 0.5mm Pitch; Supplier 1: Digi-Key; Supplier Part Number 1: LM3205TLX-ND; RoHS: Y; PinCount: 8; Code_JEDEC: MO-211-DD; ComponentLink1Description: LM3205 Datasheet; ComponentLink1URL: http://www.national.com/ds/LM/LM3205.pdf; ComponentLink2Description: LM3205 Web Page; ComponentLink2URL: http://www.national.com/pf/LM/LM3205.html; ComponentLink3Description: TLA08GNA Package Page; ComponentLink3URL: http://www.national.com/packaging/folders/tla08gna.html
footprint TLA08GNA (Micro SMD, 8-Leads, Body 1.82x1.67mm, Pitch 0.5mm, NSC Recommended)
pins: A1 PVIN (power), A2 SW, A3 PGND (power), B1 VDD (power), B3 SGND (power), C1 EN (in), C2 VCON (in), C3 FB (in)

## LM3207TL-2.53/NOPB
designator U?
650mA Miniature, Adjustable, Step-Down DC-DC Converter for RF Power Amplifiers, 9-pin Micro SMD, Pb-Free; PartNumber: LM3207TL-2.53/NOPB; Manufacturer: National Semiconductor; PackageTopMarking: XVS*I 43; PowerWise: N; CompType: MiscPower; Published: 1-Mar-2010; DatasheetVersion: Apr-2007; PackageVersion: revC, Jan-2004; PackageReference: TLA09TTA; Publisher: Altium Limited; PackageDescription: Thin Micro SMD, 9 Bump (Large), 0.5mm Pitch; Supplier 1: Digi-Key; Supplier Part Number 1: LM3207TL-2.53TR-ND; Supplier 2: Digi-Key; Supplier Part Number 2: LM3207TL-2.53CT-ND; Supplier 3: Digi-Key; Supplier Part Number 3: LM3207TL-2.53DKR-ND; RoHS: Y; PinCount: 9; Code_JEDEC: MO-211-DD; ComponentLink1Description: LM3207 Datasheet; ComponentLink1URL: http://www.national.com/ds/LM/LM3207.pdf; ComponentLink2Description: LM3207 Web Page; ComponentLink2URL: http://www.national.com/pf/LM/LM3207.html; ComponentLink3Description: TLA09TTA Package Page; ComponentLink3URL: http://www.national.com/packaging/folders/tla09tta.html
footprint TLA09TTA (Micro SMD, 9-Leads, Body 1.95x1.95mm, Pitch 0.5mm, NSC Recommended)
pins: A1 PVIN (power), A2 SW, A3 PGND (power), B1 ENLDO (in), B2 EN (in), B3 SGND (power), C1 FB (in), C2 VCON (in), C3 LDO (out)

## LM3207TLX-2.53/NOPB
designator U?
650mA Miniature, Adjustable, Step-Down DC-DC Converter for RF Power Amplifiers, 9-pin Micro SMD, Pb-Free; PartNumber: LM3207TLX-2.53/NOPB; Manufacturer: National Semiconductor; PackageTopMarking: XVS*I 43; PowerWise: N; CompType: MiscPower; Published: 1-Mar-2010; DatasheetVersion: Apr-2007; PackageVersion: revC, Jan-2004; PackageReference: TLA09TTA; Publisher: Altium Limited; PackageDescription: Thin Micro SMD, 9 Bump (Large), 0.5mm Pitch; Supplier 1: Digi-Key; Supplier Part Number 1: LM3207TLX-2.53-ND; RoHS: Y; PinCount: 9; Code_JEDEC: MO-211-DD; ComponentLink1Description: LM3207 Datasheet; ComponentLink1URL: http://www.national.com/ds/LM/LM3207.pdf; ComponentLink2Description: LM3207 Web Page; ComponentLink2URL: http://www.national.com/pf/LM/LM3207.html; ComponentLink3Description: TLA09TTA Package Page; ComponentLink3URL: http://www.national.com/packaging/folders/tla09tta.html
footprint TLA09TTA (Micro SMD, 9-Leads, Body 1.95x1.95mm, Pitch 0.5mm, NSC Recommended)
pins: A1 PVIN (power), A2 SW, A3 PGND (power), B1 ENLDO (in), B2 EN (in), B3 SGND (power), C1 FB (in), C2 VCON (in), C3 LDO (out)

## LM3207TLX/NOPB
designator U?
650mA Miniature, Adjustable, Step-Down DC-DC Converter for RF Power Amplifiers, 9-pin Micro SMD, Pb-Free; PartNumber: LM3207TLX/NOPB; Manufacturer: National Semiconductor; PackageTopMarking: XVS*I 34; PowerWise: Y; CompType: MiscPower; Published: 1-Mar-2010; DatasheetVersion: Apr-2007; PackageVersion: revC, Jan-2004; PackageReference: TLA09TTA; Publisher: Altium Limited; PackageDescription: Thin Micro SMD, 9 Bump (Large), 0.5mm Pitch; Supplier 1: Digi-Key; Supplier Part Number 1: LM3207TLX-ND; RoHS: Y; PinCount: 9; Code_JEDEC: MO-211-DD; ComponentLink1Description: LM3207 Datasheet; ComponentLink1URL: http://www.national.com/ds/LM/LM3207.pdf; ComponentLink2Description: LM3207 Web Page; ComponentLink2URL: http://www.national.com/pf/LM/LM3207.html; ComponentLink3Description: TLA09TTA Package Page; ComponentLink3URL: http://www.national.com/packaging/folders/tla09tta.html
footprint TLA09TTA (Micro SMD, 9-Leads, Body 1.95x1.95mm, Pitch 0.5mm, NSC Recommended)
pins: A1 PVIN (power), A2 SW, A3 PGND (power), B1 ENLDO (in), B2 EN (in), B3 SGND (power), C1 FB (in), C2 VCON (in), C3 LDO (out)

## LM3208TL/NOPB
designator U?
650mA Miniature, Adjustable, Step-Down DC-DC Converter for RF Power Amplifiers, 8-pin Micro SMD, Pb-Free; PartNumber: LM3208TL/NOPB; Manufacturer: National Semiconductor; PackageTopMarking: XVS*I 33; PowerWise: Y; CompType: MiscPower; Published: 1-Mar-2010; DatasheetVersion: Apr-2006; PackageVersion: revC, Jan-2004; PackageReference: TLA08GNA; Publisher: Altium Limited; PackageDescription: Thin Micro SMD, 8 Bump (Large), 0.5mm Pitch; Supplier 1: Digi-Key; Supplier Part Number 1: LM3208TLTR-ND; Supplier 2: Digi-Key; Supplier Part Number 2: LM3208TLCT-ND; Supplier 3: Digi-Key; Supplier Part Number 3: LM3208TLDKR-ND; RoHS: Y; PinCount: 8; Code_JEDEC: MO-211-DD; ComponentLink1Description: LM3208 Datasheet; ComponentLink1URL: http://www.national.com/ds/LM/LM3208.pdf; ComponentLink2Description: LM3208 Web Page; ComponentLink2URL: http://www.national.com/pf/LM/LM3208.html; ComponentLink3Description: TLA08GNA Package Page; ComponentLink3URL: http://www.national.com/packaging/folders/tla08gna.html
footprint TLA08GNA (Micro SMD, 8-Leads, Body 1.82x1.67mm, Pitch 0.5mm, NSC Recommended)
pins: A1 PVIN (power), A2 SW, A3 PGND (power), B1 VDD (power), B3 SGND (power), C1 EN (in), C2 VCON (in), C3 FB (in)

## LM3208TLX/NOPB
designator U?
650mA Miniature, Adjustable, Step-Down DC-DC Converter for RF Power Amplifiers, 8-pin Micro SMD, Pb-Free; PartNumber: LM3208TLX/NOPB; Manufacturer: National Semiconductor; PackageTopMarking: XVS*I 33; PowerWise: Y; CompType: MiscPower; Published: 1-Mar-2010; DatasheetVersion: Apr-2006; PackageVersion: revC, Jan-2004; PackageReference: TLA08GNA; Publisher: Altium Limited; PackageDescription: Thin Micro SMD, 8 Bump (Large), 0.5mm Pitch; Supplier 1: Digi-Key; Supplier Part Number 1: LM3208TLX-ND; RoHS: Y; PinCount: 8; Code_JEDEC: MO-211-DD; ComponentLink1Description: LM3208 Datasheet; ComponentLink1URL: http://www.national.com/ds/LM/LM3208.pdf; ComponentLink2Description: LM3208 Web Page; ComponentLink2URL: http://www.national.com/pf/LM/LM3208.html; ComponentLink3Description: TLA08GNA Package Page; ComponentLink3URL: http://www.national.com/packaging/folders/tla08gna.html
footprint TLA08GNA (Micro SMD, 8-Leads, Body 1.82x1.67mm, Pitch 0.5mm, NSC Recommended)
pins: A1 PVIN (power), A2 SW, A3 PGND (power), B1 VDD (power), B3 SGND (power), C1 EN (in), C2 VCON (in), C3 FB (in)

## LM3211MTX-ADJ/NOPB
designator U?
Step-up PWM DC/DC Converter Integrated with 4 Buffers, 20-pin TSSOP, Pb-Free; PartNumber: LM3211MTX-ADJ/NOPB; Manufacturer: National Semiconductor; PackageTopMarking: NSUZXYTT*LM3211*MTADJ; PowerWise: N; CompType: MiscPower; Published: 1-Mar-2010; DatasheetVersion: Feb-2004; PackageVersion: revE, Mar-2003; PackageReference: MTC20; Publisher: Altium Limited; PackageDescription: Molded TSSOP, Jedec, 6.5 x 4.4 x 0.9mm Body, 20 Lead, 0.65mm Pitch; Supplier 1: Digi-Key; Supplier Part Number 1: LM3211MTX-ADJ-ND; RoHS: Y; PinCount: 20; Code_JEDEC: MO-153-AC; ComponentLink1Description: LM3211 Datasheet; ComponentLink1URL: http://www.national.com/ds/LM/LM3211.pdf; ComponentLink2Description: LM3211 Web Page; ComponentLink2URL: http://www.national.com/pf/LM/LM3211.html; ComponentLink3Description: MTC20 Package Page; ComponentLink3URL: http://www.national.com/packaging/folders/mtc20.html
footprint MTC20_N (TSOP, 20-Leads, Body 6.5x4.4mm, Pitch 0.65mm, IPC Medium Density)
footprint MTC20_L (TSOP, 20-Leads, Body 6.5x4.4mm, Pitch 0.65mm, IPC High Density)
footprint MTC20_M (TSOP, 20-Leads, Body 6.5x4.4mm, Pitch 0.65mm, IPC Low Density)
pins: 1 VSW (in), 2 VIN (power), 3 ~{SHDN} (in), 4 FSLCT (in), 5 VS+ (power), 6 GMA1-IN (in), 7 GMA2-IN (in), 8 GMA3-IN, 9 GMA4-IN (power), 10 NC, 11 NC, 12 GMA4-OUT (out), 13 GMA3-OUT (out), 14 GMA2-OUT (out), 15 GMA1-OUT (out), 16 SS, 17 VC (in), 18 FB (in), 19 AGND (power), 20 GND (power)

## LM3218SEE/NOPB
designator U?
650mA Miniature, Adjustable, Step-Down DC-DC Converter for RF Power Amplifiers, 8-pin POS, Pb-Free; PartNumber: LM3218SEE/NOPB; Manufacturer: National Semiconductor; PowerWise: N; CompType: MiscPower; Published: 1-Mar-2010; DatasheetVersion: Jan-2009; PackageVersion: revD, Dec-2008; PackageReference: SE08A; Publisher: Altium Limited; PackageDescription: Package on Substrate, 2.5 x 3.0 x 1.15 mm Body, 8 Pad, 0.65mm Pitch; Supplier 1: Digi-Key; Supplier Part Number 1: LM3218SEETR-ND; Supplier 2: Digi-Key; Supplier Part Number 2: LM3218SEECT-ND; Supplier 3: Digi-Key; Supplier Part Number 3: LM3218SEEDKR-ND; RoHS: Y; PinCount: 8; ComponentLink1Description: LM3218 Datasheet; ComponentLink1URL: http://www.national.com/ds/LM/LM3218.pdf; ComponentLink2Description: LM3218 Web Page; ComponentLink2URL: http://www.national.com/pf/LM/LM3218.html; ComponentLink3Description: SE08A Package Page; ComponentLink3URL: http://www.national.com/packaging/folders/se08a.html
footprint SE08A (POS, 8-Leads, Body 2.5x3.0mm, Pitch 0.65mm, NSC Recommended)
pins: 1 EN (power), 2 VCON (in), 3 FB (in), 4 SGND (power), 5 VOUT (out), 6 PGND (power), 7 PVIN (power), 8 VDD (power), 9 NC, 10 NC, 11 NC

## LM3218SEX/NOPB
designator U?
650mA Miniature, Adjustable, Step-Down DC-DC Converter for RF Power Amplifiers, 8-pin POS, Pb-Free; PartNumber: LM3218SEX/NOPB; Manufacturer: National Semiconductor; PowerWise: N; CompType: MiscPower; Published: 1-Mar-2010; DatasheetVersion: Jan-2009; PackageVersion: revD, Dec-2008; PackageReference: SE08A; Publisher: Altium Limited; PackageDescription: Package on Substrate, 2.5 x 3.0 x 1.15 mm Body, 8 Pad, 0.65mm Pitch; Supplier 1: Digi-Key; Supplier Part Number 1: LM3218SEX-ND; RoHS: Y; PinCount: 8; ComponentLink1Description: LM3218 Datasheet; ComponentLink1URL: http://www.national.com/ds/LM/LM3218.pdf; ComponentLink2Description: LM3218 Web Page; ComponentLink2URL: http://www.national.com/pf/LM/LM3218.html; ComponentLink3Description: SE08A Package Page; ComponentLink3URL: http://www.national.com/packaging/folders/se08a.html
footprint SE08A (POS, 8-Leads, Body 2.5x3.0mm, Pitch 0.65mm, NSC Recommended)
pins: 1 EN (power), 2 VCON (in), 3 FB (in), 4 SGND (power), 5 VOUT (out), 6 PGND (power), 7 PVIN (power), 8 VDD (power), 9 NC, 10 NC, 11 NC

## LM3224MM-ADJ
designator U?
615kHz/1.25MHz Step-up PWM DC/DC Converter, 8-pin MSOP; PartNumber: LM3224MM-ADJ; Manufacturer: National Semiconductor; PackageTopMarking: ZXTT*SEKB; PowerWise: N; CompType: MiscPower; Published: 4-Dec-2008; DatasheetVersion: Sep-2005; PackageVersion: revF, Apr-2008; PackageReference: MUA08A; Publisher: Altium Limited; PackageDescription: MINI SOIC, .118 x .118 x .034in, 8 Lead, .0256in Pitch; Supplier 1: Farnell; Supplier Part Number 1: 1008010; RoHS: N; PinCount: 8; Code_JEDEC: MO-187-AA; ComponentLink1Description: LM3224 Datasheet; ComponentLink1URL: http://www.national.com/ds/LM/LM3224.pdf; ComponentLink2Description: LM3224 Web Page; ComponentLink2URL: http://www.national.com/pf/LM/LM3224.html; ComponentLink3Description: MUA08A Package Page; ComponentLink3URL: http://www.national.com/packaging/folders/mua08a.html
footprint MUA08A_N (TSOP, 8-Leads, Body 3x3mm, Pitch 0.65mm, IPC Medium Density)
footprint MUA08A_L (TSOP, 8-Leads, Body 3x3mm, Pitch 0.65mm, IPC High Density)
footprint MUA08A_M (TSOP, 8-Leads, Body 3x3mm, Pitch 0.65mm, IPC Low Density)
pins: 1 VC (in), 2 FB (in), 3 ~{SHDN} (in), 4 GND (power), 5 SW (in), 6 VIN (power), 7 FSLCT (in), 8 SS

## LM3280TL-275/NOPB
designator U?
Adjustable Step-Down DC-DC Converter and 3 LDOs for RF Power Management, 16-pin Micro SMD, Pb-Free; PartNumber: LM3280TL-275/NOPB; Manufacturer: National Semiconductor; PackageTopMarking: XYTT*I V002; PowerWise: N; CompType: MiscPower; Published: 1-Mar-2010; DatasheetVersion: Jan-2007; PackageVersion: revC, Jan-2004; PackageReference: TLA16QQA; Publisher: Altium Limited; PackageDescription: Thin Micro SMD, 16 Bump (Large), 0.5mm Pitch; Supplier 1: Digi-Key; Supplier Part Number 1: LM3280TL-275TR-ND; Supplier 2: Digi-Key; Supplier Part Number 2: LM3280TL-275CT-ND; Supplier 3: Digi-Key; Supplier Part Number 3: LM3280TL-275DKR-ND; RoHS: Y; PinCount: 16; Code_JEDEC: MO-211-DF; ComponentLink1Description: LM3280 Datasheet; ComponentLink1URL: http://www.national.com/ds/LM/LM3280.pdf; ComponentLink2Description: LM3280 Web Page; ComponentLink2URL: http://www.national.com/pf/LM/LM3280.html; ComponentLink3Description: TLA16QQA Package Page; ComponentLink3URL: http://www.national.com/packaging/folders/tla16qqa.html
footprint TLA16QQA (Micro SMD, 16-Leads, Body 2.35x2.35mm, Pitch 0.5mm, NSC Recommended)
pins: A1 LDO1 (out), A2 SVIN (power), A3 SGND (power), A4 BYOUT (oc), B1 LDO2 (out), B2 FB (in), B3 EN BUCK (in), B4 PVIN (power), C1 LDO3 (out), C2 EN LDO2 (in), C3 EN LDO1 (in), C4 SW (power), D1 EN LDO3 (in), D2 V CON (in), D3 BYP (in), D4 PGND (power)

## LM3280TL-280/NOPB
designator U?
Adjustable Step-Down DC-DC Converter and 3 LDOs for RF Power Management, 16-pin Micro SMD, Pb-Free; PartNumber: LM3280TL-280/NOPB; Manufacturer: National Semiconductor; PackageTopMarking: XYTT*I V003; PowerWise: N; CompType: MiscPower; Published: 1-Mar-2010; DatasheetVersion: Jan-2007; PackageVersion: revC, Jan-2004; PackageReference: TLA16QQA; Publisher: Altium Limited; PackageDescription: Thin Micro SMD, 16 Bump (Large), 0.5mm Pitch; Supplier 1: Digi-Key; Supplier Part Number 1: LM3280TL-280TR-ND; Supplier 2: Digi-Key; Supplier Part Number 2: LM3280TL-280CT-ND; Supplier 3: Digi-Key; Supplier Part Number 3: LM3280TL-280DKR-ND; RoHS: Y; PinCount: 16; Code_JEDEC: MO-211-DF; ComponentLink1Description: LM3280 Datasheet; ComponentLink1URL: http://www.national.com/ds/LM/LM3280.pdf; ComponentLink2Description: LM3280 Web Page; ComponentLink2URL: http://www.national.com/pf/LM/LM3280.html; ComponentLink3Description: TLA16QQA Package Page; ComponentLink3URL: http://www.national.com/packaging/folders/tla16qqa.html
footprint TLA16QQA (Micro SMD, 16-Leads, Body 2.35x2.35mm, Pitch 0.5mm, NSC Recommended)
pins: A1 LDO1 (out), A2 SVIN (power), A3 SGND (power), A4 BYOUT (oc), B1 LDO2 (out), B2 FB (in), B3 EN BUCK (in), B4 PVIN (power), C1 LDO3 (out), C2 EN LDO2 (in), C3 EN LDO1 (in), C4 SW (power), D1 EN LDO3 (in), D2 V CON (in), D3 BYP (in), D4 PGND (power)

## LM3280TL-290/NOPB
designator U?
Adjustable Step-Down DC-DC Converter and 3 LDOs for RF Power Management, 16-pin Micro SMD, Pb-Free; PartNumber: LM3280TL-290/NOPB; Manufacturer: National Semiconductor; PackageTopMarking: XYTT*I V004; PowerWise: N; CompType: MiscPower; Published: 1-Mar-2010; DatasheetVersion: Jan-2007; PackageVersion: revC, Jan-2004; PackageReference: TLA16QQA; Publisher: Altium Limited; PackageDescription: Thin Micro SMD, 16 Bump (Large), 0.5mm Pitch; Supplier 1: Digi-Key; Supplier Part Number 1: LM3280TL-290TR-ND; Supplier 2: Digi-Key; Supplier Part Number 2: LM3280TL-290CT-ND; Supplier 3: Digi-Key; Supplier Part Number 3: LM3280TL-290DKR-ND; RoHS: Y; PinCount: 16; Code_JEDEC: MO-211-DF; ComponentLink1Description: LM3280 Datasheet; ComponentLink1URL: http://www.national.com/ds/LM/LM3280.pdf; ComponentLink2Description: LM3280 Web Page; ComponentLink2URL: http://www.national.com/pf/LM/LM3280.html; ComponentLink3Description: TLA16QQA Package Page; ComponentLink3URL: http://www.national.com/packaging/folders/tla16qqa.html
footprint TLA16QQA (Micro SMD, 16-Leads, Body 2.35x2.35mm, Pitch 0.5mm, NSC Recommended)
pins: A1 LDO1 (out), A2 SVIN (power), A3 SGND (power), A4 BYOUT (oc), B1 LDO2 (out), B2 FB (in), B3 EN BUCK (in), B4 PVIN (power), C1 LDO3 (out), C2 EN LDO2 (in), C3 EN LDO1 (in), C4 SW (power), D1 EN LDO3 (in), D2 V CON (in), D3 BYP (in), D4 PGND (power)

## LM3280TL/NOPB
designator U?
Adjustable Step-Down DC-DC Converter and 3 LDOs for RF Power Management, 16-pin Micro SMD, Pb-Free; PartNumber: LM3280TL/NOPB; Manufacturer: National Semiconductor; PackageTopMarking: XYTT*I V001; PowerWise: N; CompType: MiscPower; Published: 1-Mar-2010; DatasheetVersion: Jan-2007; PackageVersion: revC, Jan-2004; PackageReference: TLA16QQA; Publisher: Altium Limited; PackageDescription: Thin Micro SMD, 16 Bump (Large), 0.5mm Pitch; Supplier 1: Digi-Key; Supplier Part Number 1: LM3280TLTR-ND; Supplier 2: Digi-Key; Supplier Part Number 2: LM3280TLCT-ND; Supplier 3: Digi-Key; Supplier Part Number 3: LM3280TLDKR-ND; RoHS: Y; PinCount: 16; Code_JEDEC: MO-211-DF; ComponentLink1Description: LM3280 Datasheet; ComponentLink1URL: http://www.national.com/ds/LM/LM3280.pdf; ComponentLink2Description: LM3280 Web Page; ComponentLink2URL: http://www.national.com/pf/LM/LM3280.html; ComponentLink3Description: TLA16QQA Package Page; ComponentLink3URL: http://www.national.com/packaging/folders/tla16qqa.html
footprint TLA16QQA (Micro SMD, 16-Leads, Body 2.35x2.35mm, Pitch 0.5mm, NSC Recommended)
pins: A1 LDO1 (out), A2 SVIN (power), A3 SGND (power), A4 BYOUT (oc), B1 LDO2 (out), B2 FB (in), B3 EN BUCK (in), B4 PVIN (power), C1 LDO3 (out), C2 EN LDO2 (in), C3 EN LDO1 (in), C4 SW (power), D1 EN LDO3 (in), D2 V CON (in), D3 BYP (in), D4 PGND (power)

## LM3280TLX-275/NOPB
designator U?
Adjustable Step-Down DC-DC Converter and 3 LDOs for RF Power Management, 16-pin Micro SMD, Pb-Free; PartNumber: LM3280TLX-275/NOPB; Manufacturer: National Semiconductor; PackageTopMarking: XYTT*I V002; PowerWise: N; CompType: MiscPower; Published: 1-Mar-2010; DatasheetVersion: Jan-2007; PackageVersion: revC, Jan-2004; PackageReference: TLA16QQA; Publisher: Altium Limited; PackageDescription: Thin Micro SMD, 16 Bump (Large), 0.5mm Pitch; Supplier 1: Digi-Key; Supplier Part Number 1: LM3280TLX-275-ND; RoHS: Y; PinCount: 16; Code_JEDEC: MO-211-DF; ComponentLink1Description: LM3280 Datasheet; ComponentLink1URL: http://www.national.com/ds/LM/LM3280.pdf; ComponentLink2Description: LM3280 Web Page; ComponentLink2URL: http://www.national.com/pf/LM/LM3280.html; ComponentLink3Description: TLA16QQA Package Page; ComponentLink3URL: http://www.national.com/packaging/folders/tla16qqa.html
footprint TLA16QQA (Micro SMD, 16-Leads, Body 2.35x2.35mm, Pitch 0.5mm, NSC Recommended)
pins: A1 LDO1 (out), A2 SVIN (power), A3 SGND (power), A4 BYOUT (oc), B1 LDO2 (out), B2 FB (in), B3 EN BUCK (in), B4 PVIN (power), C1 LDO3 (out), C2 EN LDO2 (in), C3 EN LDO1 (in), C4 SW (power), D1 EN LDO3 (in), D2 V CON (in), D3 BYP (in), D4 PGND (power)

## LM3280TLX-280/NOPB
designator U?
Adjustable Step-Down DC-DC Converter and 3 LDOs for RF Power Management, 16-pin Micro SMD, Pb-Free; PartNumber: LM3280TLX-280/NOPB; Manufacturer: National Semiconductor; PackageTopMarking: XYTT*I V003; PowerWise: N; CompType: MiscPower; Published: 1-Mar-2010; DatasheetVersion: Jan-2007; PackageVersion: revC, Jan-2004; PackageReference: TLA16QQA; Publisher: Altium Limited; PackageDescription: Thin Micro SMD, 16 Bump (Large), 0.5mm Pitch; Supplier 1: Digi-Key; Supplier Part Number 1: LM3280TLX-280-ND; RoHS: Y; PinCount: 16; Code_JEDEC: MO-211-DF; ComponentLink1Description: LM3280 Datasheet; ComponentLink1URL: http://www.national.com/ds/LM/LM3280.pdf; ComponentLink2Description: LM3280 Web Page; ComponentLink2URL: http://www.national.com/pf/LM/LM3280.html; ComponentLink3Description: TLA16QQA Package Page; ComponentLink3URL: http://www.national.com/packaging/folders/tla16qqa.html
footprint TLA16QQA (Micro SMD, 16-Leads, Body 2.35x2.35mm, Pitch 0.5mm, NSC Recommended)
pins: A1 LDO1 (out), A2 SVIN (power), A3 SGND (power), A4 BYOUT (oc), B1 LDO2 (out), B2 FB (in), B3 EN BUCK (in), B4 PVIN (power), C1 LDO3 (out), C2 EN LDO2 (in), C3 EN LDO1 (in), C4 SW (power), D1 EN LDO3 (in), D2 V CON (in), D3 BYP (in), D4 PGND (power)

## LM3280TLX-290/NOPB
designator U?
Adjustable Step-Down DC-DC Converter and 3 LDOs for RF Power Management, 16-pin Micro SMD, Pb-Free; PartNumber: LM3280TLX-290/NOPB; Manufacturer: National Semiconductor; PackageTopMarking: XYTT*I V004; PowerWise: N; CompType: MiscPower; Published: 1-Mar-2010; DatasheetVersion: Jan-2007; PackageVersion: revC, Jan-2004; PackageReference: TLA16QQA; Publisher: Altium Limited; PackageDescription: Thin Micro SMD, 16 Bump (Large), 0.5mm Pitch; Supplier 1: Digi-Key; Supplier Part Number 1: LM3280TLX-290-ND; RoHS: Y; PinCount: 16; Code_JEDEC: MO-211-DF; ComponentLink1Description: LM3280 Datasheet; ComponentLink1URL: http://www.national.com/ds/LM/LM3280.pdf; ComponentLink2Description: LM3280 Web Page; ComponentLink2URL: http://www.national.com/pf/LM/LM3280.html; ComponentLink3Description: TLA16QQA Package Page; ComponentLink3URL: http://www.national.com/packaging/folders/tla16qqa.html
footprint TLA16QQA (Micro SMD, 16-Leads, Body 2.35x2.35mm, Pitch 0.5mm, NSC Recommended)
pins: A1 LDO1 (out), A2 SVIN (power), A3 SGND (power), A4 BYOUT (oc), B1 LDO2 (out), B2 FB (in), B3 EN BUCK (in), B4 PVIN (power), C1 LDO3 (out), C2 EN LDO2 (in), C3 EN LDO1 (in), C4 SW (power), D1 EN LDO3 (in), D2 V CON (in), D3 BYP (in), D4 PGND (power)

## LM3280TLX/NOPB
designator U?
Adjustable Step-Down DC-DC Converter and 3 LDOs for RF Power Management, 16-pin Micro SMD, Pb-Free; PartNumber: LM3280TLX/NOPB; Manufacturer: National Semiconductor; PackageTopMarking: XYTT*I V001; PowerWise: N; CompType: MiscPower; Published: 1-Mar-2010; DatasheetVersion: Jan-2007; PackageVersion: revC, Jan-2004; PackageReference: TLA16QQA; Publisher: Altium Limited; PackageDescription: Thin Micro SMD, 16 Bump (Large), 0.5mm Pitch; Supplier 1: Digi-Key; Supplier Part Number 1: LM3280TLX-ND; RoHS: Y; PinCount: 16; Code_JEDEC: MO-211-DF; ComponentLink1Description: LM3280 Datasheet; ComponentLink1URL: http://www.national.com/ds/LM/LM3280.pdf; ComponentLink2Description: LM3280 Web Page; ComponentLink2URL: http://www.national.com/pf/LM/LM3280.html; ComponentLink3Description: TLA16QQA Package Page; ComponentLink3URL: http://www.national.com/packaging/folders/tla16qqa.html
footprint TLA16QQA (Micro SMD, 16-Leads, Body 2.35x2.35mm, Pitch 0.5mm, NSC Recommended)
pins: A1 LDO1 (out), A2 SVIN (power), A3 SGND (power), A4 BYOUT (oc), B1 LDO2 (out), B2 FB (in), B3 EN BUCK (in), B4 PVIN (power), C1 LDO3 (out), C2 EN LDO2 (in), C3 EN LDO1 (in), C4 SW (power), D1 EN LDO3 (in), D2 V CON (in), D3 BYP (in), D4 PGND (power)